# Altium schematic symbol library SLW-913535-2A-SMT.SchLib: 2 symbols
Pins are listed as number, name and electrical type; pins without a type are passive.

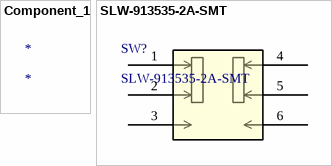
[diagram p0: symbols Component_1 to SLW-913535-2A-SMT]

## Component_1
designator *

## SLW-913535-2A-SMT
designator SW?
No Description Available; Manufacturer_Name: Same Sky; Type: Slide Switches; Copyright: Copyright (C) 2025 Ultra Librarian. All rights reserved.; Manufacturer_Part_Number: SLW-913535-2A-SMT; RefDes: RefDes
footprint SLW-913535_CUD
pins: 1, 2, 3, 4, 5, 6